# EAGLE library part MAX3421E (library X893)
http://www.maxim-ic.com/datasheet/index.mvp/id/3639
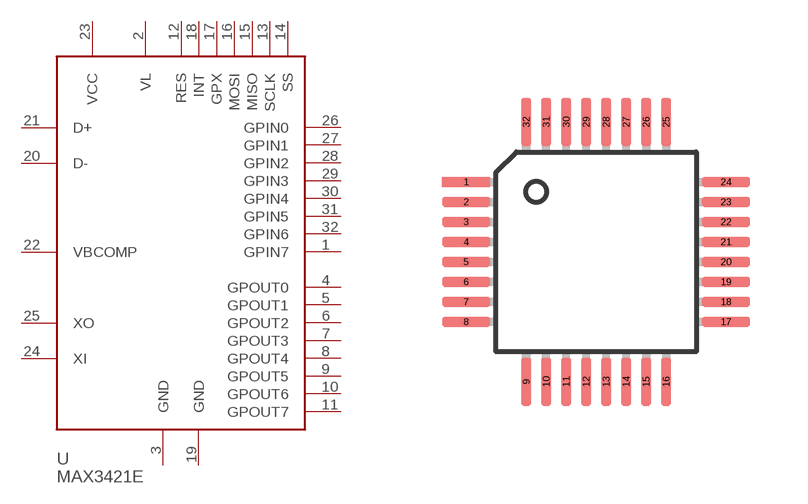
[diagram p162: symbol with the pads of TQFP32-5X5; footprint TQFP32-5X5]

Designator prefix U

## MAX3421EEHJ+  [TQFP32-5X5]
1  GPIN7  in
2  VL  in
3  GND  sup
4  GPOUT0  out
5  GPOUT1  out
6  GPOUT2  out
7  GPOUT3  out
8  GPOUT4  out
9  GPOUT5  out
10  GPOUT6  out
11  GPOUT7  out
12  RES  in
13  SCLK  in
14  SS  in
15  MISO  out
16  MOSI  in
17  GPX  out
18  INT  out
19  GND  sup
20  D-
21  D+
22  VBCOMP  in
23  VCC  sup
24  XI  in
25  XO  out
26  GPIN0  in
27  GPIN1  in
28  GPIN2  in
29  GPIN3  in
30  GPIN4  in
31  GPIN5  in
32  GPIN6  in

## Footprint TQFP32-5X5 (pad centres in mm)
smd 1.2 x 0.25: 1 -3.25,1.75; 2 -3.25,1.25; 3 -3.25,0.75; 4 -3.25,0.25; 5 -3.25,-0.25; 6 -3.25,-0.75; 7 -3.25,-1.25; 8 -3.25,-1.75; 17 3.25,-1.75; 18 3.25,-1.25; 19 3.25,-0.75; 20 3.25,-0.25; 21 3.25,0.25; 22 3.25,0.75; 23 3.25,1.25; 24 3.25,1.75
smd 0.25 x 1.2: 9 -1.75,-3.25; 10 -1.25,-3.25; 11 -0.75,-3.25; 12 -0.25,-3.25; 13 0.25,-3.25; 14 0.75,-3.25; 15 1.25,-3.25; 16 1.75,-3.25; 25 1.75,3.25; 26 1.25,3.25; 27 0.75,3.25; 28 0.25,3.25; 29 -0.25,3.25; 30 -0.75,3.25; 31 -1.25,3.25; 32 -1.75,3.25